# EAGLE library part PIC16F1455-I/ST (library usbpiclib)
8-Bit USB Microcontrollers,14TSSOP
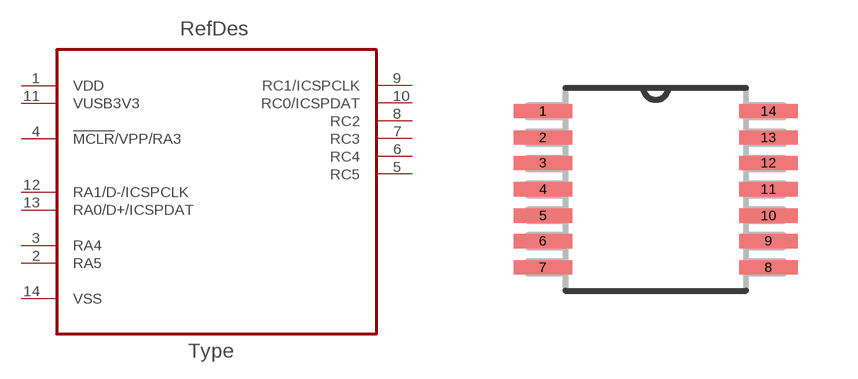
[diagram p0: symbol with the pads of SOP65P640X120-14N; footprint SOP65P640X120-14N]

Designator prefix U

## PIC16F1455-I/ST (MPN: PIC16F1455-I/ST; OC_FARNELL: 2313756; OC_NEWARK: 83T7201; PACKAGE: TSSOP-14; SUPPLIER: MICROCHIP)  [SOP65P640X120-14N]
1  VDD  pwr
2  RA5
3  RA4
4  !MCLR!/VPP/RA3
5  RC5
6  RC4
7  RC3
8  RC2
9  RC1/ICSPCLK
10  RC0/ICSPDAT
11  VUSB3V3  pwr
12  RA1/D-/ICSPCLK
13  RA0/D+/ICSPDAT
14  VSS  pas

## Footprint SOP65P640X120-14N (pad centres in mm)
smd 1.473 x 0.356: 1 -2.819,1.956; 2 -2.819,1.295; 3 -2.819,0.66; 4 -2.819,0; 5 -2.819,-0.66; 6 -2.819,-1.295; 7 -2.819,-1.956; 8 2.819,-1.956; 9 2.819,-1.295; 10 2.819,-0.66; 11 2.819,0; 12 2.819,0.66; 13 2.819,1.295; 14 2.819,1.956